# EAGLE library part MD-90SM (library con-cuistack)
Mini-DIN - 9 Pin
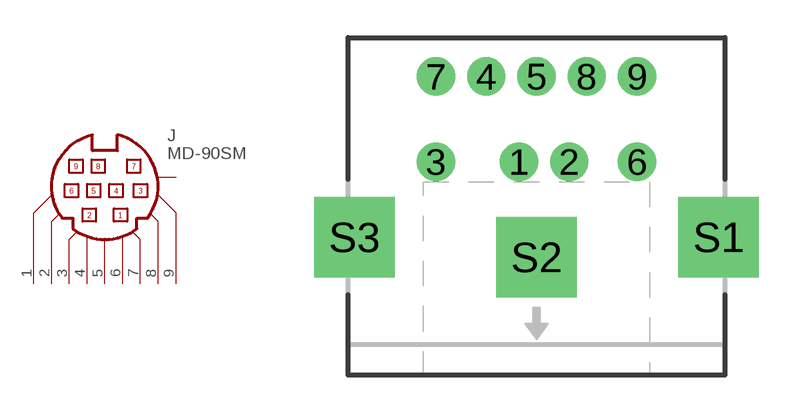
[diagram p4: symbol with the pads of MD-90SM; footprint MD-90SM]

Designator prefix J

## MD-90SM  [MD-90SM]
1  1  pas
2  2  pas
3  3  pas
4  4  pas
5  5  pas
6  6  pas
7  7  pas
8  8  pas
9  9  pas
S1  S1  pas
S2  S2  pas
S3  S3  pas

## Footprint MD-90SM (pad centres in mm)
Mini DIN - 9 Pin
drill 1.016: 1 -0.7,3.8; 2 1.3,3.8; 3 -4,3.8; 4 -2,7.2; 5 0,7.2; 6 4,3.8; 7 -4,7.2; 8 2,7.2; 9 4,7.2
drill 2.184 square: S1 7.25,0.8; S2 0,0; S3 -7.25,0.8